# Altium footprint library SAMTEC_HW-20-16-F-D-250-SM-A.PcbLib: 1 footprints
Each footprint in its own frame and in the unit in brackets; x right, y up, seen from the top. Pads: shape width x height; smd on the part's side, far side on the other; paste and mask are expansions set on the pad; w line width, h text height; cw(c..) or ccw(c..) is an arc to the next point about the centre after c.
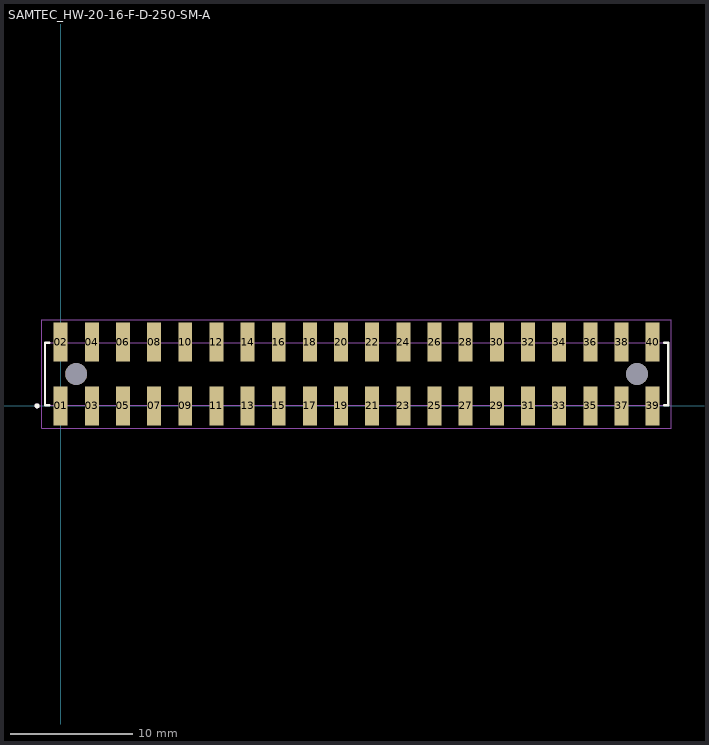
[diagram p0: the footprint, top view; thin cyan lines are the x and y axes]

## SAMTEC_HW-20-16-F-D-250-SM-A [mm]
pads (42):
  rect 1.14x3.175 smd: 01(0,0) 02(0,5.205) 03(2.54,0) 04(2.54,5.205) 05(5.08,0) 06(5.08,5.205) 07(7.62,0) 08(7.62,5.205) 09(10.16,0) 10(10.16,5.205) 11(12.7,0) 12(12.7,5.205) 13(15.24,0) 14(15.24,5.205) 15(17.78,0) 16(17.78,5.205) 17(20.32,0) 18(20.32,5.205) 19(22.86,0) 20(22.86,5.205) 21(25.4,0) 22(25.4,5.205) 23(27.94,0) 24(27.94,5.205) 25(30.48,0) 26(30.48,5.205) 27(33.02,0) 28(33.02,5.205) 29(35.56,0) 30(35.56,5.205) 31(38.1,0) 32(38.1,5.205) 33(40.64,0) 34(40.64,5.205) 35(43.18,0) 36(43.18,5.205) 37(45.72,0) 38(45.72,5.205) 39(48.26,0) 40(48.26,5.205)
  round 1.78 hole 1.78 unplated: ""(1.27,2.603) ""(46.99,2.603)
Top Overlay:
  circle w0.2: c-1.92,0 r0.1
  lines w0.2: -0.92,0.062 -1.27,0.062 -1.27,5.143 -0.92,5.143 ; 49.18,0.062 49.53,0.062 49.53,5.143 49.18,5.143
Mechanical 13:
  circle w0.2: c-1.92,0 r0.1
  lines w0.1: -1.27,0.062 -1.27,5.143 ; -1.27,0.062 49.53,0.062 ; -1.27,0.062 -1.27,5.143 ; -1.27,5.143 49.53,5.143 ; -1.27,5.143 49.53,5.143 ; 49.53,0.062 49.53,5.143 ; 49.53,0.062 49.53,5.143
Mechanical 15:
  lines w0.05: -1.52,-1.837 -1.52,7.043 49.78,7.043 49.78,-1.837 -1.52,-1.837